# Altium schematic symbol library PLB171.SchLib: 1 symbol
Pins are listed as number, name and electrical type; pins without a type are passive.

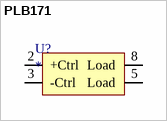
[diagram p0: symbol PLB171]

## PLB171
designator U?
pins: 2 +Ctrl, 3 -Ctrl, 5 Load, 8 Load